# EAGLE library part PCM1690DCAR (library _mtvl_ic)
PCM1690 24-Bit, 192-kHz Sampling, Enhanced Multi-Level ΔΣ, Eight-Channel Audio Digital-to-Analog Converter http://www.ti.com/lit/ds/symlink/pcm1690.pdf?&ts=1589263756626
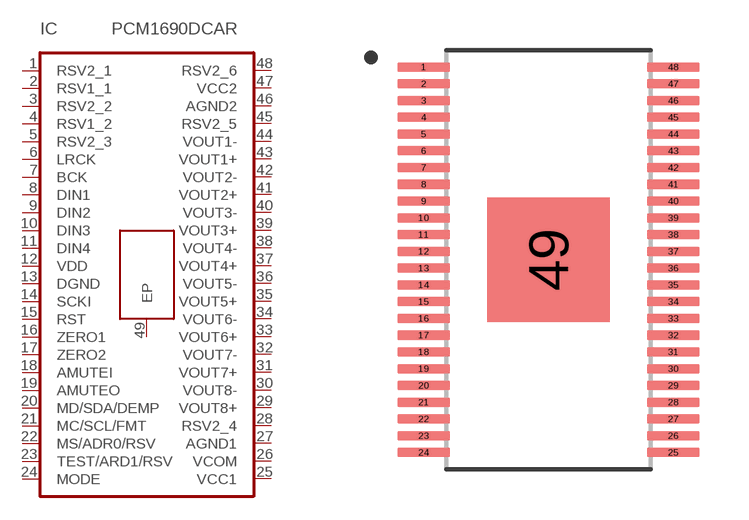
[diagram p40: symbol with the pads of SOP50P810X120-49N; footprint SOP50P810X120-49N]

Designator prefix IC

## PCM1690DCAR  [SOP50P810X120-49N]
1  RSV2_1
2  RSV1_1
3  RSV2_2
4  RSV1_2
5  RSV2_3
6  LRCK
7  BCK
8  DIN1
9  DIN2
10  DIN3
11  DIN4
12  VDD
13  DGND
14  SCKI
15  RST
16  ZERO1
17  ZERO2
18  AMUTEI
19  AMUTEO
20  MD/SDA/DEMP
21  MC/SCL/FMT
22  MS/ADR0/RSV
23  TEST/ARD1/RSV
24  MODE
25  VCC1
26  VCOM
27  AGND1
28  RSV2_4
29  VOUT8+
30  VOUT8-
31  VOUT7+
32  VOUT7-
33  VOUT6+
34  VOUT6-
35  VOUT5+
36  VOUT5-
37  VOUT4+
38  VOUT4-
39  VOUT3+
40  VOUT3-
41  VOUT2+
42  VOUT2-
43  VOUT1+
44  VOUT1-
45  RSV2_5
46  AGND2
47  VCC2
48  RSV2_6
49  EP

## Footprint SOP50P810X120-49N (pad centres in mm)
SOP50P810X120-49N
smd 1.57 x 0.28: 1 -3.72,5.75; 2 -3.72,5.25; 3 -3.72,4.75; 4 -3.72,4.25; 5 -3.72,3.75; 6 -3.72,3.25; 7 -3.72,2.75; 8 -3.72,2.25; 9 -3.72,1.75; 10 -3.72,1.25; 11 -3.72,0.75; 12 -3.72,0.25; 13 -3.72,-0.25; 14 -3.72,-0.75; 15 -3.72,-1.25; 16 -3.72,-1.75; 17 -3.72,-2.25; 18 -3.72,-2.75; 19 -3.72,-3.25; 20 -3.72,-3.75; 21 -3.72,-4.25; 22 -3.72,-4.75; 23 -3.72,-5.25; 24 -3.72,-5.75; 25 3.72,-5.75; 26 3.72,-5.25; 27 3.72,-4.75; 28 3.72,-4.25; 29 3.72,-3.75; 30 3.72,-3.25; 31 3.72,-2.75; 32 3.72,-2.25; 33 3.72,-1.75; 34 3.72,-1.25; 35 3.72,-0.75; 36 3.72,-0.25; 37 3.72,0.25; 38 3.72,0.75; 39 3.72,1.25; 40 3.72,1.75; 41 3.72,2.25; 42 3.72,2.75; 43 3.72,3.25; 44 3.72,3.75; 45 3.72,4.25; 46 3.72,4.75; 47 3.72,5.25; 48 3.72,5.75
smd 3.65 x 3.7: 49 0,0